# EAGLE library part MAX31855K (library U-Sensor)
MAX31855K [MAXIM,MAX31855KASA+] THERMOCOUPLE K 14BIT SPI 8SOIC note MAX6675 is getting discontinued so I will use MAX31855KASA+ MAX6675 [MAXIM,MAX6675ISA] THERMOCOUPLE K COMPENSATED 12BIT ADC SPI 8SOIC
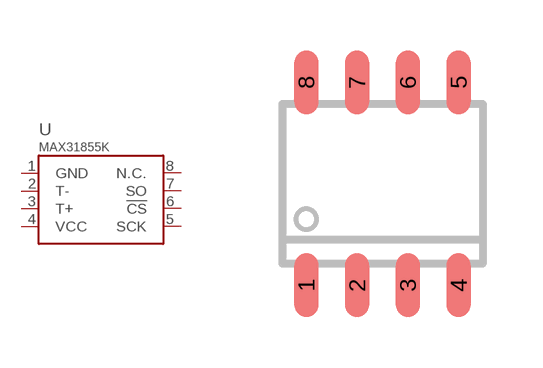
[diagram p0: symbol with the pads of SOIC8; footprint SOIC8]

Designator prefix U

## MAX31855KZ+  [SOIC8]
1  GND  pwr
2  T-
3  T+
4  VCC  pwr
5  SCK
6  !CS  in
7  SO
8  N.C.  nc

## Footprint SOIC8 (pad centres in mm)
8POS Standard SMALLl OUTLINE Package (SO/SOIC) Narrow Body
smd 0.6 x 1.6: 1 -1.905,-2.54; 2 -0.635,-2.54; 3 0.635,-2.54; 4 1.905,-2.54; 5 1.905,2.54; 6 0.635,2.54; 7 -0.635,2.54; 8 -1.905,2.54